# Altium integrated library GRM319C81C106MA12J.IntLib: 1 symbol
Pins are listed as number, name and electrical type; pins without a type are passive.

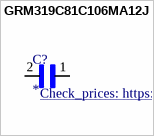
[diagram p0: symbol GRM319C81C106MA12J]

## GRM319C81C106MA12J
designator C?
SMD Capacitor X6S(EIA) with Capacitance: 10uF Tol. 20%. Rated Voltage: 16Vdc; MF: Murata; MP: GRM319C81C106MA12J; Value: *; Price: None; Package: 1206 Murata; SnapEDA_Link: https://www.snapeda.com/parts/GRM319C81C106MA12J/Murata/view-part/1894707/?ref=snap; Availability: Warning; Purchase-URL: https://pricing.snapeda.com/search/part/GRM319C81C106MA12J/?ref=eda; Check_prices: https://www.snapeda.com/parts/GRM319C81C106MA12J/Murata/view-part/1894707/?ref=eda
footprint CAPC3216X190
pins: 1, 2